# Altium footprint library JST_B2B-PH-K-S.PcbLib: 1 footprints
Each footprint in its own frame and in the unit in brackets; x right, y up, seen from the top. Pads: shape width x height; smd on the part's side, far side on the other; paste and mask are expansions set on the pad; w line width, h text height; cw(c..) or ccw(c..) is an arc to the next point about the centre after c.
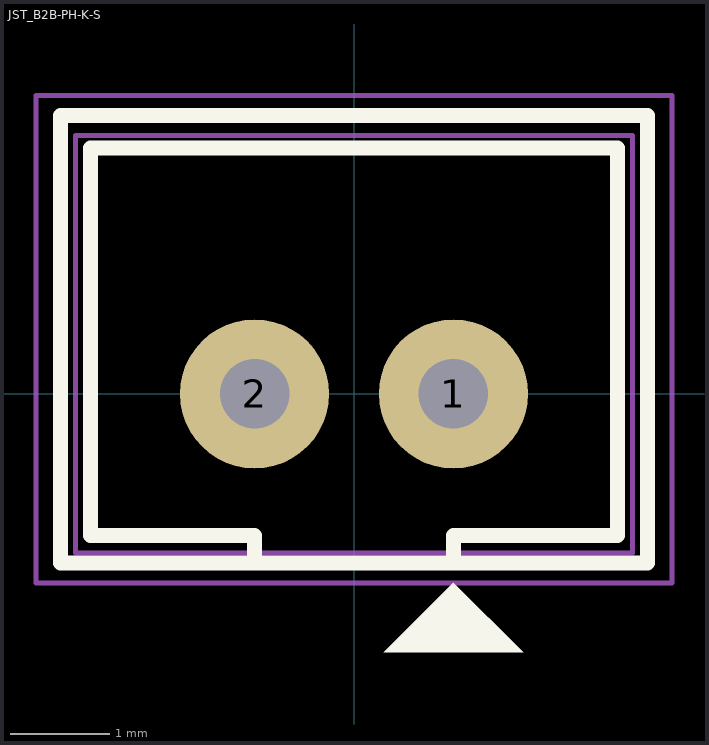
[diagram p0: the footprint, top view; thin cyan lines are the x and y axes]

## JST_B2B-PH-K-S [mm] "JST PH series 2.0mm pitch 2 pins"
pads (2):
  round 1.5 hole 0.7 mask-0.1: 1(1,0) 2(-1,0)
Top Overlay:
  region: 1,-1.9 0.3,-2.6 1.7,-2.6
  lines w0.15: -1,-1.7 -1,-1.425 -2.65,-1.425 -2.65,2.475 2.65,2.475 2.65,-1.425 1,-1.425 1,-1.7 ; -2.95,-1.7 -2.95,2.8 2.95,2.8 2.95,-1.7 -2.95,-1.7
Top Assembly:
  lines w0.05: -2.8,-1.6 -2.8,2.6 2.8,2.6 2.8,-1.6 -2.8,-1.6
Top Courtyard:
  lines w0.05: -3.2,-1.9 -3.2,3 3.2,3 3.2,-1.9 -3.2,-1.9
3D body "PHR-2.STEP": height 8.72, standoff 1.88, extent -2.9,-1.6 2.9,2.9
3D body "B2B-PH-K-S(LF)(SN)--3DModel-STEP-56544.STEP": height 6.01, standoff -3.39, extent -2.95,-1.7 2.95,2.8